# Altium footprint library 1N5822RL.PcbLib: 1 footprints
Each footprint in its own frame and in the unit in brackets; x right, y up, seen from the top. Pads: shape width x height; smd on the part's side, far side on the other; paste and mask are expansions set on the pad; w line width, h text height; cw(c..) or ccw(c..) is an arc to the next point about the centre after c.
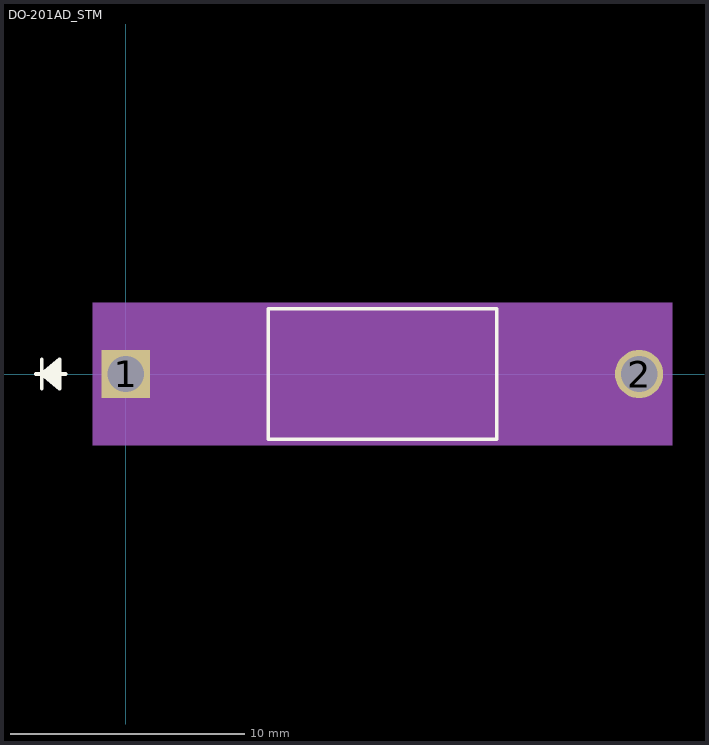
[diagram p0: the footprint, top view; thin cyan lines are the x and y axes]

## DO-201AD_STM [mil]
pads (2):
  rect 81x81 hole 61 mask+0: 1(0,0)
  round 81 hole 61 mask+0: 2(862,0)
Top Overlay:
  lines w6: -151,0 -101,0 ; -141,-25 -141,25 ; -111,-20 -141,0 ; -111,-15 -141,0 ; -111,-10 -141,0 ; -111,-5 -141,0 ; -111,5 -141,0 ; -111,10 -141,0 ; -111,15 -141,0 ; -111,20 -141,0 ; -141,0 -111,25 -111,-25 -141,0 ; 239,-109.5 623,-109.5 623,109.5 239,109.5 239,-109.5
Mechanical 5:
  region: 917.5,-119.5 -55.5,-119.5 -55.5,119.5 917.5,119.5
Mechanical 13:
  lines w1: -151,0 -101,0 ; -141,-25 -141,25 ; -111,-20 -141,0 ; -111,-15 -141,0 ; -111,-10 -141,0 ; -111,-5 -141,0 ; -111,5 -141,0 ; -111,10 -141,0 ; -111,15 -141,0 ; -111,20 -141,0 ; 0,0 244,0 ; 618,0 862,0 ; -141,0 -111,25 -111,-25 -141,0 ; 244,-104.5 618,-104.5 618,104.5 244,104.5 244,-104.5
Mechanical 15:
  region: 234,-50.5 -50.5,-50.5 -50.5,50.5 234,50.5 234,114.5 628,114.5 628,50.5 912.5,50.5 912.5,-50.5 628,-50.5 628,-114.5 234,-114.5
  region: 618,-104.5 244,-104.5 244,104.5 618,104.5
  lines w6: -50.5,-50.5 -50.5,50.5 234,50.5 234,114.5 628,114.5 628,50.5 912.5,50.5 912.5,-50.5 628,-50.5 628,-114.5 234,-114.5 234,-50.5 -50.5,-50.5
3D body "DO-201AD_STM.step": height 209.06, standoff -100, extent -25.51,-104.6 887.48,104.6